# Altium schematic symbol library BLDC_driver.SchLib: 29 symbols
Pins are listed as number, name and electrical type; pins without a type are passive.

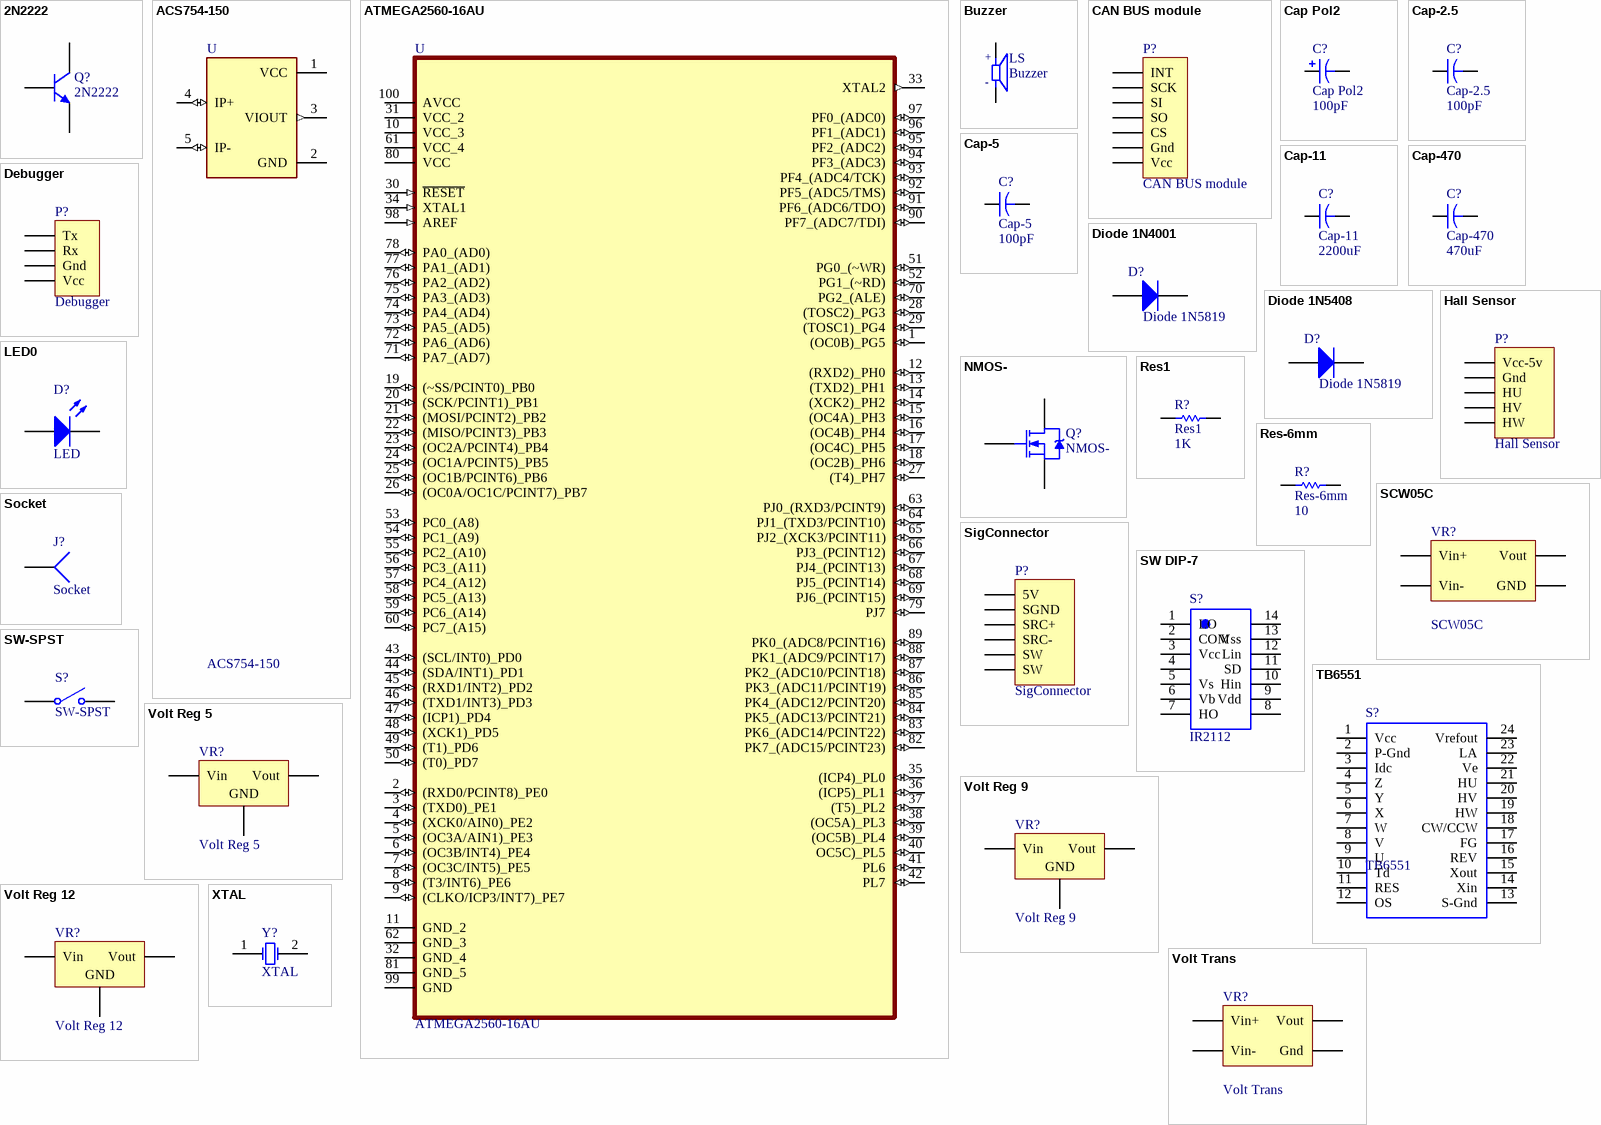
[diagram p0: symbols 2N2222 to XTAL]

## 2N2222
designator Q?
NPN General Purpose Amplifier; Published: 8-Jun-2000; LatestRevisionDate: 15-Jan-2003; LatestRevisionNote: PCB Footprint 'BCY-W3/D4.7' replaced; DatasheetVersion: 1997; PackageVersion: Sep-1998; PackageReference: TO-92A; Publisher: Altium Limited; PackageDescription: TO, Flat Index; 3 In-Line, Axial Leads; Body Dia. 4.5mm; Leads 0.51 x 0.48 mm (max); ComponentLink1Description: Manufacturer Link; ComponentLink1URL: http://www.fairchildsemi.com/; ComponentLink2Description: Datasheet; ComponentLink2URL: http://www.fairchildsemi.com/ds/2N%2F2N3904.pdf
footprint TO-92A (TO, Flat Index; 3 In-Line, Axial Leads; Body Dia. 4.5mm; Leads 0.51 x 0.48 mm (max))
pins: 1 C, 2 B, 3 E

## ACS754-150
designator U
Current Sensor 50A 1 Channel Hall Effect, Open Loop Unidirectional 5-CB Formed Leads, PFF; MP: ACS758; MF: Allegro MicroSystems LLC; Package: 5-CB-5 Allegro MicroSystems LLC; Availability: Unavailable; Price: None; Value: *; SnapEDA_Link: https://www.snapeda.com/parts/ACS758/Allegro%20MicroSystems%20LLC/view-part/226237/?ref=snap
footprint ACS754-150
pins: 1 VCC (power), 2 GND (power), 3 VIOUT (out), 4 IP+ (io), 5 IP- (io)

## ATMEGA2560-16AU
designator U
AVR AVRÂ® ATmega Microcontroller IC 8-Bit 16MHz 256KB _128K x 16_ FLASH 100-TQFP _14x14_; MF: Microchip; Package: TQFP-100 Adesto Technologies; Price: None; Availability: Unavailable; MP: ATMEGA2560-16AU; SnapEDA_Link: https://www.snapeda.com/parts/ATMEGA2560-16AU/Microchip/view-part/54180/?ref=snap; Value: *
footprint QFP50P1600X1600X120-100N
pins: 1 (OC0B)_PG5 (io), 2 (RXD0/PCINT8)_PE0 (io), 3 (TXD0)_PE1 (io), 4 (XCK0/AIN0)_PE2 (io), 5 (OC3A/AIN1)_PE3 (io), 6 (OC3B/INT4)_PE4 (io), 7 (OC3C/INT5)_PE5 (io), 8 (T3/INT6)_PE6 (io), 9 (CLKO/ICP3/INT7)_PE7 (io), 10 VCC_3 (power), 11 GND_2, 12 (RXD2)_PH0 (io), 13 (TXD2)_PH1 (io), 14 (XCK2)_PH2 (io), 15 (OC4A)_PH3 (io), 16 (OC4B)_PH4 (io), 17 (OC4C)_PH5 (io), 18 (OC2B)_PH6 (io), 19 (~SS/PCINT0)_PB0 (io), 20 (SCK/PCINT1)_PB1 (io), 21 (MOSI/PCINT2)_PB2 (io), 22 (MISO/PCINT3)_PB3 (io), 23 (OC2A/PCINT4)_PB4 (io), 24 (OC1A/PCINT5)_PB5 (io), 25 (OC1B/PCINT6)_PB6 (io), 26 (OC0A/OC1C/PCINT7)_PB7 (io), 27 (T4)_PH7 (io), 28 (TOSC2)_PG3 (io), 29 (TOSC1)_PG4 (io), 30 ~{RESET} (in), 31 VCC_2 (power), 32 GND_4, 33 XTAL2 (out), 34 XTAL1 (in), 35 (ICP4)_PL0 (io), 36 (ICP5)_PL1 (io), 37 (T5)_PL2 (io), 38 (OC5A)_PL3 (io), 39 (OC5B)_PL4 (io), 40 OC5C)_PL5 (io), 41 PL6 (io), 42 PL7 (io), 43 (SCL/INT0)_PD0 (io), 44 (SDA/INT1)_PD1 (io), 45 (RXD1/INT2)_PD2 (io), 46 (TXD1/INT3)_PD3 (io), 47 (ICP1)_PD4 (io), 48 (XCK1)_PD5 (io), 49 (T1)_PD6 (io), 50 (T0)_PD7 (io), 51 PG0_(~WR) (io), 52 PG1_(~RD) (io), 53 PC0_(A8) (io), 54 PC1_(A9) (io), 55 PC2_(A10) (io), 56 PC3_(A11) (io), 57 PC4_(A12) (io), 58 PC5_(A13) (io), 59 PC6_(A14) (io), 60 PC7_(A15) (io), 61 VCC_4 (power), 62 GND_3, 63 PJ0_(RXD3/PCINT9) (io), 64 PJ1_(TXD3/PCINT10) (io), 65 PJ2_(XCK3/PCINT11) (io), 66 PJ3_(PCINT12) (io), 67 PJ4_(PCINT13) (io), 68 PJ5_(PCINT14) (io), 69 PJ6_(PCINT15) (io), 70 PG2_(ALE) (io), 71 PA7_(AD7) (io), 72 PA6_(AD6) (io), 73 PA5_(AD5) (io), 74 PA4_(AD4) (io), 75 PA3_(AD3) (io), 76 PA2_(AD2) (io), 77 PA1_(AD1) (io), 78 PA0_(AD0) (io), 79 PJ7 (io), 80 VCC (power), 81 GND_5, 82 PK7_(ADC15/PCINT23) (io), 83 PK6_(ADC14/PCINT22) (io), 84 PK5_(ADC13/PCINT21) (io), 85 PK4_(ADC12/PCINT20) (io), 86 PK3_(ADC11/PCINT19) (io), 87 PK2_(ADC10/PCINT18) (io), 88 PK1_(ADC9/PCINT17) (io), 89 PK0_(ADC8/PCINT16) (io), 90 PF7_(ADC7/TDI) (io), 91 PF6_(ADC6/TDO) (io), 92 PF5_(ADC5/TMS) (io), 93 PF4_(ADC4/TCK) (io), 94 PF3_(ADC3) (io), 95 PF2_(ADC2) (io), 96 PF1_(ADC1) (io), 97 PF0_(ADC0) (io), 98 AREF (in), 99 GND, 100 AVCC (power)

## Buzzer
designator LS
Buzzer, 12 mm, 1,5 V, 85 dB; MF: CUI Devices; MP: CEM-1201_42_; CUI_purchase_URL: https://www.cuidevices.com/product/audio/buzzers/audio-transducers/cem-1201_42_?utm_source=snapeda.com&utm_medium=referral&utm_campaign=snapedaBOM; Price: None; SnapEDA_Link: https://www.snapeda.com/parts/CEM-1201%2842%29/CUI%20Devices/view-part/2755977/?ref=snap; Value: *; Availability: Unavailable; Package: CUI Inc.
footprint Buzzer (Buzzer 12mm)
pins: M, P
text: +; -

## CAN BUS module
designator P?
Header, 7-Pin; LatestRevisionDate: 17-Jul-2002; LatestRevisionNote: Re-released for DXP Platform.; Publisher: Altium Limited
signal-integrity model Connector
footprint HDR1X7 (Connector; Header; 7 Position)
pins: 1 INT, 2 SCK, 3 SI, 4 SO, 5 CS, 6 Gnd, 7 Vcc

## Cap Pol2
designator C?  value 100pF
Polarized Capacitor (Axial); Published: 8-Jun-2000; LatestRevisionDate: 17-Jul-2002; LatestRevisionNote: Re-released for DXP Platform.; PackageReference: POLAR0.8; Publisher: Altium Limited; PackageDescription: Polarized Capacitor; 2 Leads
footprint POLAR0.8 (Polarized Capacitor; 2 Leads)
simulation model CAP (Capacitor)
signal-integrity model Cap Pol
footprint POLAR0.8 (Polarized Capacitor; 2 Leads)
pins: 1, 2
1 alternate drawing of the same symbol

## Cap-2.5
designator C?  value 100pF
Capacitor; Published: 23-Sep-2002; PackageReference: CAPR5-4X5; Publisher: Altium Limited; PackageDescription: Capacitor; 2 Leads
footprint CAP-2.5mm (Capacitor; 2 Leads)
pins: 1, 2

## Cap-5
designator C?  value 100pF
Capacitor; Published: 23-Sep-2002; PackageReference: CAPR5-4X5; Publisher: Altium Limited; PackageDescription: Capacitor; 2 Leads
footprint CAP-5mm (Capacitor; 2 Leads)
pins: 1, 2

## Cap-11
designator C?  value 2200uF
Capacitor; Published: 23-Sep-2002; PackageReference: CAPR5-4X5; Publisher: Altium Limited; PackageDescription: Capacitor; 2 Leads
footprint CAP-11mm (Capacitor; 2 Leads)
pins: 1, 2

## Cap-470
designator C?  value 470uF
Capacitor; Published: 23-Sep-2002; PackageReference: CAPR5-4X5; Publisher: Altium Limited; PackageDescription: Capacitor; 2 Leads
footprint CAP-5-470 (Capacitor; 2 Leads)
pins: 1, 2

## Debugger
designator P?
Header, 4-Pin; LatestRevisionDate: 17-Jul-2002; LatestRevisionNote: Re-released for DXP Platform.; Publisher: Altium Limited
signal-integrity model Connector
footprint HDR1X4 (Connector; Header; 4 Position)
pins: 1 Tx, 2 Rx, 3 Gnd, 4 Vcc

## Diode 1N4001
designator D?, comment Diode 1N5819
3 Amp Medium Power Silicon Rectifier Diode; Published: 8-Jun-2000; LatestRevisionDate: 17-Jul-2002; LatestRevisionNote: Re-released for DXP Platform.; DatasheetVersion: Aug-1984; PackageReference: DO-201AD; Publisher: Altium Limited; PackageDescription: Diode, Axial; Body 9.5 x 5.3 mm (LxDia. max), Lead Dia. 1.32 mm (max); ComponentLink1Description: Manufacturer Link; ComponentLink1URL: http://www.irf.com/
footprint DO-5mm (Diode, Axial; Body 4.6 x 1.9 mm (LxDia. max), Lead Dia. 0.53 mm (max))
pins: 1 A, 2 K

## Diode 1N5408
designator D?, comment Diode 1N5819
3 Amp Medium Power Silicon Rectifier Diode; Published: 8-Jun-2000; LatestRevisionDate: 17-Jul-2002; LatestRevisionNote: Re-released for DXP Platform.; DatasheetVersion: Aug-1984; PackageReference: DO-201AD; Publisher: Altium Limited; PackageDescription: Diode, Axial; Body 9.5 x 5.3 mm (LxDia. max), Lead Dia. 1.32 mm (max); ComponentLink1Description: Manufacturer Link; ComponentLink1URL: http://www.irf.com/
footprint DO-5mm (Diode, Axial; Body 4.6 x 1.9 mm (LxDia. max), Lead Dia. 0.53 mm (max))
pins: 1 A, 2 K

## Hall Sensor
designator P?
Header, 5-Pin; LatestRevisionDate: 17-Jul-2002; LatestRevisionNote: Re-released for DXP Platform.; Publisher: Altium Limited
signal-integrity model Connector
footprint Header-5 (Connector; Header; 5 Position)
pins: 1 Vcc-5v, 2 Gnd, 3 HU, 4 HV, 5 HW

## LED0
designator D?, comment LED
Typical LED; Published: 8-Jun-2000; LatestRevisionDate: 08-Jul-2005; LatestRevisionNote: Mech Layer 1 removed.; PackageReference: LED-0; Publisher: Altium Limited; PackageDescription: LED; 2 Leads
footprint LED-2.5mm (Capacitor; 2 Leads)
signal-integrity model Model Name (Model Description)
pins: 1 A, 2 K

## NMOS-
designator Q?
IRFB4110; Note: Pin 2 is electrically connected to pin 4.; Published: 8-Jun-2000; LatestRevisionDate: 17-Jul-2002; LatestRevisionNote: Re-released for DXP Platform.; DatasheetVersion: PD-9.814; PackageVersion: Feb-1997; PackageReference: TO-220AB; Publisher: Altium Limited; PackageDescription: TO, Thru-Hole, Vertical, Heatsink Mounted; 3 In-Line Leads; Pitch 2.54 mm; ComponentLink1Description: Manufacturer Link; ComponentLink1URL: http://www.irf.com/
footprint TO-220AB (TO, Thru-Hole, Vertical, Heatsink Mounted; 3 In-Line Leads; Pitch 2.54 mm)
signal-integrity model Model Name (Model Description)
pins: 1 G, 2 D, 3 S

## Res1
designator R?  value 1K
Resistor; Published: 8-Jun-2000; LatestRevisionDate: 17-Jul-2002; LatestRevisionNote: Re-released for DXP Platform.; PackageReference: AXIAL-0.3; Publisher: Altium Limited; PackageDescription: Axial Device, Thru-Hole; 2 Leads; 0.3 in Pin Spacing
footprint AXIAL-5mm (Axial Device, Thru-Hole; 2 Leads; 0.3 in Pin Spacing)
signal-integrity model Model Name (Model Description)
pins: 1, 2

## Res-6mm
designator R?  value 10
Resistor; Published: 8-Jun-2000; LatestRevisionDate: 17-Jul-2002; LatestRevisionNote: Re-released for DXP Platform.; PackageReference: AXIAL-0.3; Publisher: Altium Limited; PackageDescription: Axial Device, Thru-Hole; 2 Leads; 0.3 in Pin Spacing
signal-integrity model Model Name (Model Description)
footprint DO-6mm (Diode, Axial; Body 4.6 x 1.9 mm (LxDia. max), Lead Dia. 0.53 mm (max))
pins: 1, 2

## SCW05C
designator VR?
Voltage Regulator; Published: 24-Mar-1999; LatestRevisionDate: 29-May-2009; LatestRevisionNote: IPC-7351 Footprint Added.; PackageReference: D2PAK; Publisher: Altium Limited; PackageDescription: 3-Pin Transistor Outline Package 2.54 mm Pitch, 15.1 mm Lead Span
footprint KLD-0202 (DC Power Jack, 2.5mm, KLD Series, PCB Mount)
pins: 1 Vin+, 2 Vin-, 3 Vout, 4 GND

## SigConnector
designator P?
Header, 6-Pin; LatestRevisionDate: 17-Jul-2002; LatestRevisionNote: Re-released for DXP Platform.; Publisher: Altium Limited
signal-integrity model Connector
footprint Sig Connector (Connector; Header; 6 Position)
pins: 1 5V, 2 SGND, 3 SRC+, 4 SRC-, 5 SW, 6 SW

## Socket
designator J?
LatestRevisionDate: 17-Jul-2002; LatestRevisionNote: Re-released for DXP Platform.; Publisher: Altium Limited
signal-integrity model Connector
footprint Plug-high (Generic Antenna; 1 Lead)
pins: 1

## SW DIP-7
designator S?, comment IR2112
DIP Switch, 7 Position, SPST; Published: 24-Mar-1999; LatestRevisionDate: 17-Jul-2002; LatestRevisionNote: Re-released for DXP Platform.; PackageReference: DIP-14; Publisher: Altium Limited; Code_JEDEC: MO-001-AF
footprint DIP-14 (DIP; 14 Leads; Row Spacing 7.62 mm; Pitch 2.54 mm)
pins: 1 LO, 2 COM, 3 Vcc, 4 NC, 5 Vs, 6 Vb, 7 HO, 8 NC, 9 Vdd, 10 Hin, 11 SD, 12 Lin, 13 Vss, 14 NC

## SW-SPST
designator S?
Single-Pole, Single-Throw Switch; Published: 24-Mar-1999; LatestRevisionDate: 17-Jul-2002; LatestRevisionNote: Re-released for DXP Platform.; PackageReference: SPST-2; Publisher: Altium Limited; PackageDescription: Switch; 2 Leads
footprint SPST-2 (Switch; 2 Leads)
pins: 1 COMMON, 2 NO

## TB6551
designator S?
DIP Switch, 8 Position, SPST; Published: 24-Mar-1999; LatestRevisionDate: 17-Jul-2002; LatestRevisionNote: Re-released for DXP Platform.; PackageReference: DIP_SW_8WAY_SMD; Publisher: Altium Limited; PackageDescription: DIP Switch; 16 Leads
footprint DIP12 (DIP Switch; 16 Leads)
pins: 1 Vcc, 2 P-Gnd, 3 Idc, 4 Z, 5 Y, 6 X, 7 W, 8 V, 9 U, 10 Td, 11 RES, 12 OS, 13 S-Gnd, 14 Xin, 15 Xout, 16 REV, 17 FG, 18 CW/CCW, 19 HW, 20 HV, 21 HU, 22 Ve, 23 LA, 24 Vrefout

## Volt Reg 5
designator VR?
Voltage Regulator; Published: 24-Mar-1999; LatestRevisionDate: 29-May-2009; LatestRevisionNote: IPC-7351 Footprint Added.; PackageReference: D2PAK; Publisher: Altium Limited; PackageDescription: 3-Pin Transistor Outline Package 2.54 mm Pitch, 15.1 mm Lead Span
footprint TO-220AB (TO, Thru-Hole, Vertical, Heatsink Mounted; 3 In-Line Leads; Pitch 2.54 mm)
signal-integrity model Model Name (Model Description)
pins: 1 Vin, 2 GND, 3 Vout

## Volt Reg 9
designator VR?
Voltage Regulator; Published: 24-Mar-1999; LatestRevisionDate: 29-May-2009; LatestRevisionNote: IPC-7351 Footprint Added.; PackageReference: D2PAK; Publisher: Altium Limited; PackageDescription: 3-Pin Transistor Outline Package 2.54 mm Pitch, 15.1 mm Lead Span
footprint TO-220AB (TO, Thru-Hole, Vertical, Heatsink Mounted; 3 In-Line Leads; Pitch 2.54 mm)
signal-integrity model Model Name (Model Description)
pins: 1 Vin, 2 GND, 3 Vout

## Volt Reg 12
designator VR?
Voltage Regulator; Published: 24-Mar-1999; LatestRevisionDate: 29-May-2009; LatestRevisionNote: IPC-7351 Footprint Added.; PackageReference: D2PAK; Publisher: Altium Limited; PackageDescription: 3-Pin Transistor Outline Package 2.54 mm Pitch, 15.1 mm Lead Span
footprint TO-220AB (TO, Thru-Hole, Vertical, Heatsink Mounted; 3 In-Line Leads; Pitch 2.54 mm)
signal-integrity model Model Name (Model Description)
pins: 1 Vin, 2 GND, 3 Vout

## Volt Trans
designator VR?
Voltage Regulator; Published: 24-Mar-1999; LatestRevisionDate: 29-May-2009; LatestRevisionNote: IPC-7351 Footprint Added.; PackageReference: D2PAK; Publisher: Altium Limited; PackageDescription: 3-Pin Transistor Outline Package 2.54 mm Pitch, 15.1 mm Lead Span
signal-integrity model Model Name (Model Description)
footprint Volt Trans (Connector; Header; 2x2 Position)
pins: 1 Vin-, 2 Vin+, 3 Gnd, 4 Vout

## XTAL
designator Y?
Crystal Oscillator; Published: 8-Jun-2000; LatestRevisionDate: 17-Jul-2002; LatestRevisionNote: Re-released for DXP Platform.; PackageReference: R38; Publisher: Altium Limited; PackageDescription: Crystal, Thru-Hole; 2 Leads; Body 3.1 x 8.2 mm (Dia.xH)
footprint XTAL (Crystal, Thru-Hole; 2 Leads; Body 3.1 x 8.2 mm (Dia.xH))
pins: 1 OSC1, 2 OSC2